# Altium integrated library TI Amplifiers and Linear Special Function Amplifier.IntLib: 708 symbols (part 5 of 47)
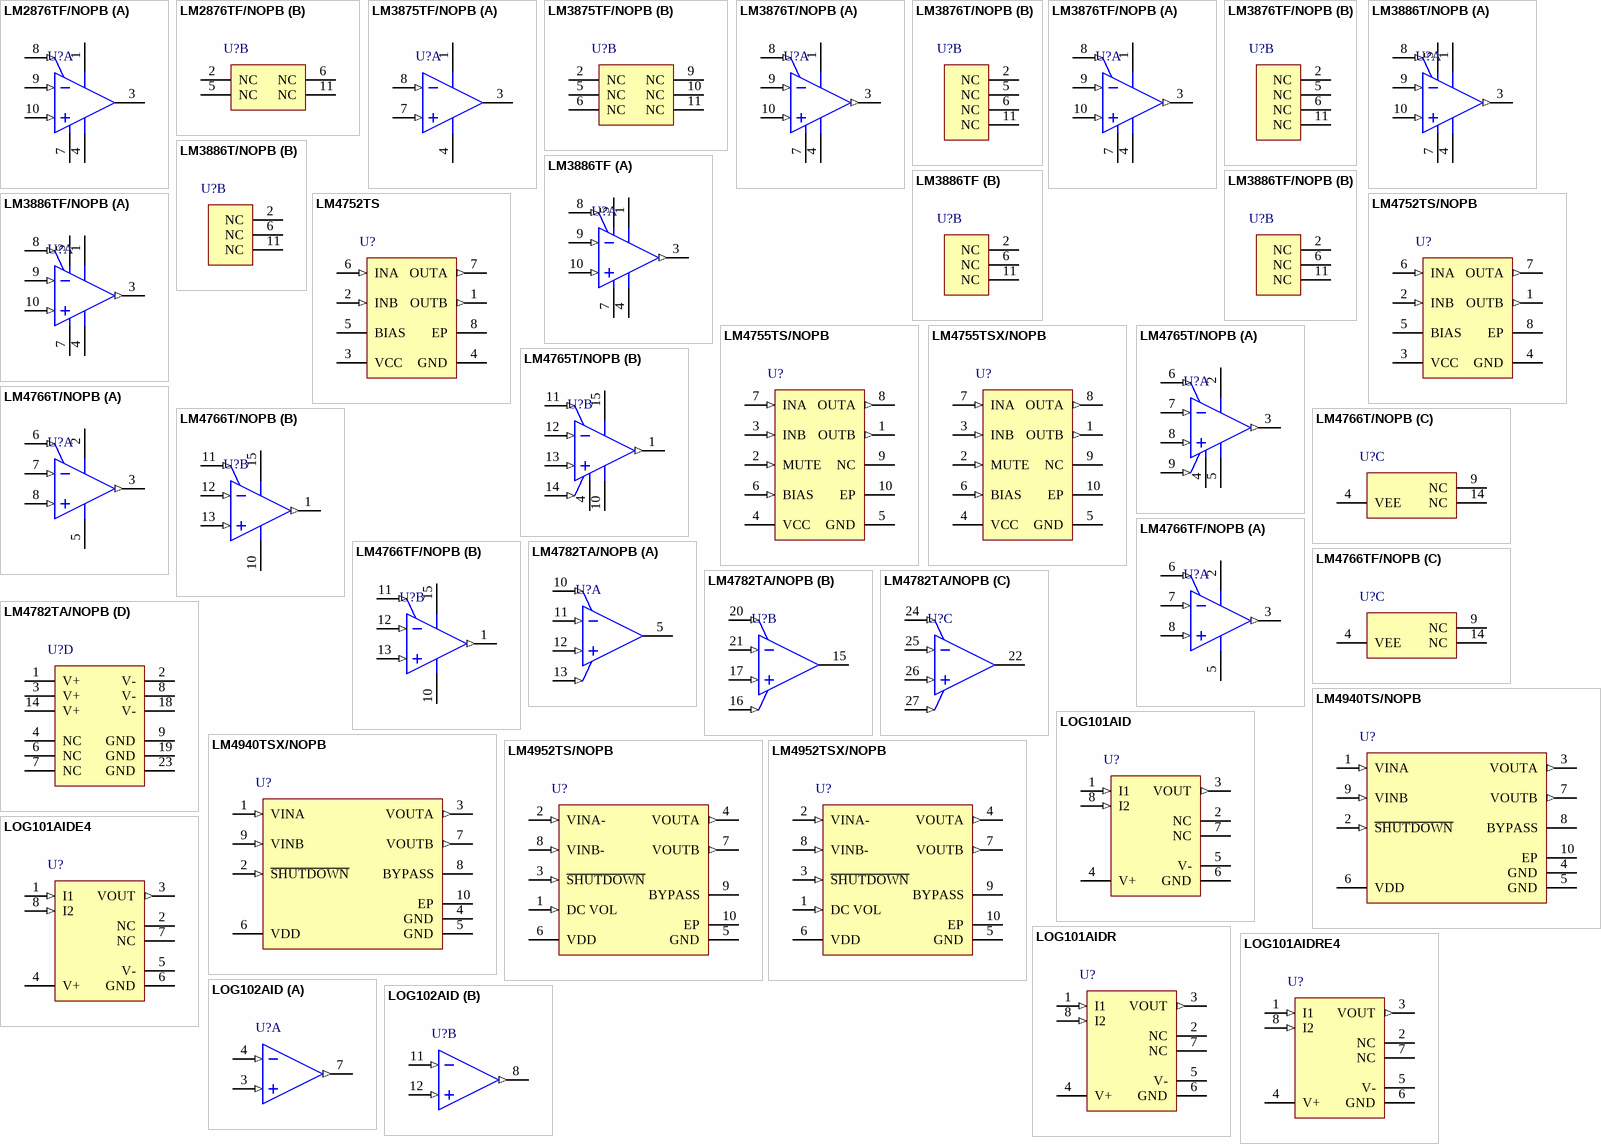
[diagram p43: symbols LM2876TF/NOPB to LOG102AID]

## LM3875TF/NOPB
designator U?
High-Performance 56 W Audio Power Amplifier, -20 to 85 degC, 11-pin FM (NDA11), Pb-Free (RoHS Exempt); Manufacturer: Texas Instruments; PartNumber: LM3875TF/NOPB; Analog Supply Max [V]: 20; Analog Supply Min [V]: 84; Input Type: Analog; SubFamily: Mid/High-Power Amplifier; DatasheetVersion: SNAS083D; PackageVersion: Rev. D, 02/2013; PackageReference: NDA11; PackageDescription: 11-Pin Metal Flange Mount, Body 20.02 x 4.5 mm, Pitch 1.7 mm; Supplier 1: Digi-Key; Supplier Part Number 1: LM3875TF/NOPB-ND; Supplier 2: Farnell; Supplier Part Number 2: 1468867; Supplier 3: Newark; Supplier Part Number 3: 41K5106; Supplier 4: Mouser; Supplier Part Number 4: 926-LM3875TF/NOPB; Eco-Plan: Pb-Free (RoHS Exempt); Mounting Technology: Through Hole; ComponentLink1Description: Manufacturer URL; ComponentLink1URL: http://www.ti.com/; ComponentLink2Description: Datasheet; ComponentLink2URL: http://www.ti.com/general/docs/lit/getliterature.tsp?genericPartNumber=LM3875&fileType=pdf; ComponentLink3Description: Package Specification; ComponentLink3URL: http://www.ti.com/lit/ml/mmsf015/mmsf015.pdf
footprint TI-NDA11 (FM, 11-Leads, Body 20.02x4.5mm, Pitch 1.7mm)
part A pins: 1 V+ (power), 3 OUT (hiz), 4 V- (power), 7 VIN+ (in), 8 VIN- (in)
part B pins: 2 NC, 5 NC, 6 NC, 9 NC, 10 NC, 11 NC

## LM3876T/NOPB
designator U?
High-Performance 56 W Audio Power Amplifier with Mute, -20 to 85 degC, 11-pin FM (NDJ11), Green (RoHS & no Sb/Br); Manufacturer: Texas Instruments; PartNumber: LM3876T/NOPB; Analog Supply Max [V]: 24; Analog Supply Min [V]: 84; Input Type: Analog; SubFamily: Mid/High-Power Amplifier; DatasheetVersion: SNAS090D; PackageVersion: Rev. B, 05/2013; PackageReference: NDJ11; PackageDescription: 11-Pin Metal Flange Mount, Body 20.02 x 4.5, Pitch 1.7 mm; Supplier 1: Digi-Key; Supplier Part Number 1: LM3876T/NOPB-ND; Supplier 2: Farnell; Supplier Part Number 2: 1184989; Supplier 3: Newark; Supplier Part Number 3: 41K5107; Supplier 4: Mouser; Supplier Part Number 4: 926-LM3876T/NOPB; Eco-Plan: Green (RoHS & no Sb/Br); Mounting Technology: Through Hole; ComponentLink1Description: Manufacturer URL; ComponentLink1URL: http://www.ti.com/; ComponentLink2Description: Datasheet; ComponentLink2URL: http://www.ti.com/general/docs/lit/getliterature.tsp?genericPartNumber=LM3876&fileType=pdf; ComponentLink3Description: Package Specification; ComponentLink3URL: http://www.ti.com/lit/ds/symlink/lm3886.pdf
footprint TI-NDJ11 (FM, 11-Leads, Body 20.02x4.5mm, Pitch 1.7mm)
part A pins: 1 V+ (power), 3 OUTPUT (out), 4 V- (power), 7 GND (power), 8 MUTE (in), 9 VIN- (in), 10 VIN+ (in)
part B pins: 2 NC, 5 NC, 6 NC, 11 NC

## LM3876TF/NOPB
designator U?
High-Performance 56 W Audio Power Amplifier with Mute, -20 to 85 degC, 11-pin FM (NDA11), Pb-Free (RoHS Exempt); Manufacturer: Texas Instruments; PartNumber: LM3876TF/NOPB; Analog Supply Max [V]: 24; Analog Supply Min [V]: 84; Input Type: Analog; SubFamily: Mid/High-Power Amplifier; DatasheetVersion: SNAS090D; PackageVersion: Rev. D, 02/2013; PackageReference: NDA11; PackageDescription: 11-Pin Metal Flange Mount, Body 20.02 x 4.5 mm, Pitch 1.7 mm; Supplier 1: Digi-Key; Supplier Part Number 1: LM3876TF/NOPB-ND; Supplier 2: Newark; Supplier Part Number 2: 41K5108; Supplier 3: Mouser; Supplier Part Number 3: 926-LM3876TF/NOPB; Eco-Plan: Pb-Free (RoHS Exempt); Mounting Technology: Through Hole; ComponentLink1Description: Manufacturer URL; ComponentLink1URL: http://www.ti.com/; ComponentLink2Description: Datasheet; ComponentLink2URL: http://www.ti.com/general/docs/lit/getliterature.tsp?genericPartNumber=LM3876&fileType=pdf; ComponentLink3Description: Package Specification; ComponentLink3URL: http://www.ti.com/lit/ml/mmsf015/mmsf015.pdf
footprint TI-NDA11 (FM, 11-Leads, Body 20.02x4.5mm, Pitch 1.7mm)
part A pins: 1 V+ (power), 3 OUTPUT (out), 4 V- (power), 7 GND (power), 8 MUTE (in), 9 VIN- (in), 10 VIN+ (in)
part B pins: 2 NC, 5 NC, 6 NC, 11 NC

## LM3886T/NOPB
designator U?
High-Performance 68 W Audio Power Amplifier with Mute, 0 to 70 degC, 11-pin FM (NDJ11), Green (RoHS & no Sb/Br); Manufacturer: Texas Instruments; PartNumber: LM3886T/NOPB; Input Type: Analog; SubFamily: Mid/High-Power Amplifier; DatasheetVersion: SNAS091C; PackageVersion: Rev. B, 05/2013; PackageReference: NDJ11; PackageDescription: 11-Pin Metal Flange Mount, Body 20.02 x 4.5, Pitch 1.7 mm; Supplier 1: Digi-Key; Supplier Part Number 1: LM3886T/NOPB-ND; Supplier 2: Farnell; Supplier Part Number 2: 1468869; Supplier 3: Newark; Supplier Part Number 3: 41K5109; Supplier 4: Mouser; Supplier Part Number 4: 926-LM3886T/NOPB; Eco-Plan: Green (RoHS & no Sb/Br); Mounting Technology: Through Hole; ComponentLink1Description: Manufacturer URL; ComponentLink1URL: http://www.ti.com/; ComponentLink2Description: Datasheet; ComponentLink2URL: http://www.ti.com/general/docs/lit/getliterature.tsp?genericPartNumber=LM3886&fileType=pdf; ComponentLink3Description: Package Specification; ComponentLink3URL: http://www.ti.com/lit/ds/symlink/lm3886.pdf
footprint TI-NDJ11 (FM, 11-Leads, Body 20.02x4.5mm, Pitch 1.7mm)
part A pins: 1 V+ (power), 3 OUTPUT (out), 4 V- (power), 5 V+ (power), 7 GND (power), 8 MUTE (in), 9 VIN- (in), 10 VIN+ (in)
part B pins: 2 NC, 6 NC, 11 NC

## LM3886TF
designator U?
High-Performance 68 W Audio Power Amplifier with Mute, 0 to 70 degC, 11-pin FM (NDA11); Manufacturer: Texas Instruments; PartNumber: LM3886TF; Input Type: Analog; SubFamily: Mid/High-Power Amplifier; DatasheetVersion: SNAS091C; PackageVersion: Rev. D, 02/2013; PackageReference: NDA11; PackageDescription: 11-Pin Metal Flange Mount, Body 20.02 x 4.5 mm, Pitch 1.7 mm; Supplier 1: Digi-Key; Supplier Part Number 1: LM3886TF-ND; Supplier 2: Farnell; Supplier Part Number 2: 9489681; Supplier 3: Farnell; Supplier Part Number 3: 1523846; Supplier 4: Newark; Supplier Part Number 4: 92F299; Supplier 5: Mouser; Supplier Part Number 5: 926-LM3886TF; Mounting Technology: Through Hole; ComponentLink1Description: Manufacturer URL; ComponentLink1URL: http://www.ti.com/; ComponentLink2Description: Datasheet; ComponentLink2URL: http://www.ti.com/general/docs/lit/getliterature.tsp?genericPartNumber=LM3886&fileType=pdf; ComponentLink3Description: Package Specification; ComponentLink3URL: http://www.ti.com/lit/ml/mmsf015/mmsf015.pdf
footprint TI-NDA11 (FM, 11-Leads, Body 20.02x4.5mm, Pitch 1.7mm)
part A pins: 1 V+ (power), 3 OUTPUT (out), 4 V- (power), 5 V+ (power), 7 GND (power), 8 MUTE (in), 9 VIN- (in), 10 VIN+ (in)
part B pins: 2 NC, 6 NC, 11 NC

## LM3886TF/NOPB
designator U?
High-Performance 68 W Audio Power Amplifier with Mute, 0 to 70 degC, 11-pin FM (NDA11), Pb-Free (RoHS Exempt); Manufacturer: Texas Instruments; PartNumber: LM3886TF/NOPB; Input Type: Analog; SubFamily: Mid/High-Power Amplifier; DatasheetVersion: SNAS091C; PackageVersion: Rev. D, 02/2013; PackageReference: NDA11; PackageDescription: 11-Pin Metal Flange Mount, Body 20.02 x 4.5 mm, Pitch 1.7 mm; Supplier 1: Digi-Key; Supplier Part Number 1: LM3886TF/NOPB-ND; Supplier 2: Farnell; Supplier Part Number 2: 1179742; Supplier 3: Newark; Supplier Part Number 3: 41K5110; Supplier 4: Mouser; Supplier Part Number 4: 926-LM3886TF/NOPB; Eco-Plan: Pb-Free (RoHS Exempt); Mounting Technology: Through Hole; ComponentLink1Description: Manufacturer URL; ComponentLink1URL: http://www.ti.com/; ComponentLink2Description: Datasheet; ComponentLink2URL: http://www.ti.com/general/docs/lit/getliterature.tsp?genericPartNumber=LM3886&fileType=pdf; ComponentLink3Description: Package Specification; ComponentLink3URL: http://www.ti.com/lit/ml/mmsf015/mmsf015.pdf
footprint TI-NDA11 (FM, 11-Leads, Body 20.02x4.5mm, Pitch 1.7mm)
part A pins: 1 V+ (power), 3 OUTPUT (out), 4 V- (power), 5 V+ (power), 7 GND (power), 8 MUTE (in), 9 VIN- (in), 10 VIN+ (in)
part B pins: 2 NC, 6 NC, 11 NC

## LM4752TS
designator U?
Stereo 11 W Audio Power Amplifier, 0 to 70 degC, 7-pin DPAK (KTW7); Manufacturer: Texas Instruments; PartNumber: LM4752TS; Input Type: Analog; Max. Number of Speaker Outputs: 2; SubFamily: Mid/High-Power Amplifier; DatasheetVersion: SNAS006E; PackageVersion: 4201284/A, 08/2001; PackageReference: KTW7; PackageDescription: 7-Pin Plastic Flange Mount, Body 8.89 x 10.1 mm, Pitch 1.27 mm; Supplier 1: Digi-Key; Supplier Part Number 1: LM4752TS-ND; Supplier 2: Farnell; Supplier Part Number 2: 1798325; Supplier 3: Newark; Supplier Part Number 3: 73R9744; Supplier 4: Newark; Supplier Part Number 4: 48F7272; Supplier 5: Mouser; Supplier Part Number 5: 926-LM4752TS; Mounting Technology: Surface Mount; Code_JEDEC: MO-169; ComponentLink1Description: Manufacturer URL; ComponentLink1URL: http://www.ti.com/; ComponentLink2Description: Datasheet; ComponentLink2URL: http://www.ti.com/general/docs/lit/getliterature.tsp?genericPartNumber=LM4752&fileType=pdf; ComponentLink3Description: Package Specification; ComponentLink3URL: http://www.ti.com/litv/pdf/mpsf015
footprint TI-KTW7_N (DPAK, 7-Leads, Body 9.4x10.4mm, Pitch 1.27mm, IPC Medium Density)
footprint TI-KTW7_L (DPAK, 7-Leads, Body 9.4x10.4mm, Pitch 1.27mm, IPC High Density)
footprint TI-KTW7_M (DPAK, 7-Leads, Body 9.4x10.4mm, Pitch 1.27mm, IPC Low Density)
pins: 1 OUTB (out), 2 INB (in), 3 VCC (power), 4 GND (power), 5 BIAS, 6 INA (in), 7 OUTA (out), 8 EP

## LM4752TS/NOPB
designator U?
Stereo 11 W Audio Power Amplifier, 0 to 70 degC, 7-pin DPAK (KTW7), Pb-Free (RoHS Exempt); Manufacturer: Texas Instruments; PartNumber: LM4752TS/NOPB; Input Type: Analog; Max. Number of Speaker Outputs: 2; SubFamily: Mid/High-Power Amplifier; DatasheetVersion: SNAS006E; PackageVersion: 4201284/A, 08/2001; PackageReference: KTW7; PackageDescription: 7-Pin Plastic Flange Mount, Body 8.89 x 10.1 mm, Pitch 1.27 mm; Supplier 1: Digi-Key; Supplier Part Number 1: LM4752TS/NOPB-ND; Supplier 2: Farnell; Supplier Part Number 2: 1853252; Supplier 3: Newark; Supplier Part Number 3: 41K5583; Supplier 4: Mouser; Supplier Part Number 4: 926-LM4752TS/NOPB; Eco-Plan: Pb-Free (RoHS Exempt); Mounting Technology: Surface Mount; Code_JEDEC: MO-169; ComponentLink1Description: Manufacturer URL; ComponentLink1URL: http://www.ti.com/; ComponentLink2Description: Datasheet; ComponentLink2URL: http://www.ti.com/general/docs/lit/getliterature.tsp?genericPartNumber=LM4752&fileType=pdf; ComponentLink3Description: Package Specification; ComponentLink3URL: http://www.ti.com/litv/pdf/mpsf015
footprint TI-KTW7_N (DPAK, 7-Leads, Body 9.4x10.4mm, Pitch 1.27mm, IPC Medium Density)
footprint TI-KTW7_L (DPAK, 7-Leads, Body 9.4x10.4mm, Pitch 1.27mm, IPC High Density)
footprint TI-KTW7_M (DPAK, 7-Leads, Body 9.4x10.4mm, Pitch 1.27mm, IPC Low Density)
pins: 1 OUTB (out), 2 INB (in), 3 VCC (power), 4 GND (power), 5 BIAS, 6 INA (in), 7 OUTA (out), 8 EP

## LM4755TS/NOPB
designator U?
Stereo 11 W Audio Power Amplifier with Mute, -40 to 85 degC, 9-pin DPAK (KTW9), Pb-Free (RoHS Exempt); Manufacturer: Texas Instruments; PartNumber: LM4755TS/NOPB; Input Type: Analog; Max. Number of Speaker Outputs: 2; SubFamily: Mid/High-Power Amplifier; DatasheetVersion: SNAS010E; PackageVersion: Rev. B, 04/2013; PackageReference: TI-KTW9; PackageDescription: 9-Pin Plastic Flange Mount, Bdoy 10.16 x 4.57 mm, Pitch 0.97 mm; Supplier 1: Digi-Key; Supplier Part Number 1: LM4755TS/NOPB-ND; Supplier 2: Farnell; Supplier Part Number 2: 1685378; Supplier 3: Newark; Supplier Part Number 3: 41K5585; Supplier 4: Mouser; Supplier Part Number 4: 926-LM4755TS/NOPB; Eco-Plan: Pb-Free (RoHS Exempt); Mounting Technology: Through Hole; ComponentLink1Description: Manufacturer URL; ComponentLink1URL: http://www.ti.com/; ComponentLink2Description: Datasheet; ComponentLink2URL: http://www.ti.com/general/docs/lit/getliterature.tsp?genericPartNumber=LM4755&fileType=pdf; ComponentLink3Description: Package Specification; ComponentLink3URL: http://www.ti.com/lit/ml/mpsf047/mpsf047.pdf
footprint TI-KTW9_N (DPAK, 9-Leads, Body 10.16x8.69mm, Pitch 0.97mm, IPC Medium Density)
footprint TI-KTW9_L (DPAK, 9-Leads, Body 10.16x8.69mm, Pitch 0.97mm, IPC High Density)
footprint TI-KTW9_M (DPAK, 9-Leads, Body 10.16x8.69mm, Pitch 0.97mm, IPC Low Density)
pins: 1 OUTB (out), 2 MUTE (in), 3 INB (in), 4 VCC (power), 5 GND (power), 6 BIAS (in), 7 INA (in), 8 OUTA (out), 9 NC, 10 EP

## LM4755TSX/NOPB
designator U?
Stereo 11 W Audio Power Amplifier with Mute, -40 to 85 degC, 9-pin DPAK (KTW9), Pb-Free (RoHS Exempt); Manufacturer: Texas Instruments; PartNumber: LM4755TSX/NOPB; Input Type: Analog; Max. Number of Speaker Outputs: 2; SubFamily: Mid/High-Power Amplifier; DatasheetVersion: SNAS010E; PackageVersion: Rev. B, 04/2013; PackageReference: TI-KTW9; PackageDescription: 9-Pin Plastic Flange Mount, Bdoy 10.16 x 4.57 mm, Pitch 0.97 mm; Supplier 1: Digi-Key; Supplier Part Number 1: LM4755TSX/NOPBTR-ND; Supplier 2: Digi-Key; Supplier Part Number 2: LM4755TSX/NOPBCT-ND; Supplier 3: Digi-Key; Supplier Part Number 3: LM4755TSX/NOPBDKR-ND; Supplier 4: Newark; Supplier Part Number 4: 41K5586; Supplier 5: Mouser; Supplier Part Number 5: 926-LM4755TSX/NOPB; Eco-Plan: Pb-Free (RoHS Exempt); Mounting Technology: Through Hole; ComponentLink1Description: Manufacturer URL; ComponentLink1URL: http://www.ti.com/; ComponentLink2Description: Datasheet; ComponentLink2URL: http://www.ti.com/general/docs/lit/getliterature.tsp?genericPartNumber=LM4755&fileType=pdf; ComponentLink3Description: Package Specification; ComponentLink3URL: http://www.ti.com/lit/ml/mpsf047/mpsf047.pdf
footprint TI-KTW9_N (DPAK, 9-Leads, Body 10.16x8.69mm, Pitch 0.97mm, IPC Medium Density)
footprint TI-KTW9_L (DPAK, 9-Leads, Body 10.16x8.69mm, Pitch 0.97mm, IPC High Density)
footprint TI-KTW9_M (DPAK, 9-Leads, Body 10.16x8.69mm, Pitch 0.97mm, IPC Low Density)
pins: 1 OUTB (out), 2 MUTE (in), 3 INB (in), 4 VCC (power), 5 GND (power), 6 BIAS (in), 7 INA (in), 8 OUTA (out), 9 NC, 10 EP

## LM4765T/NOPB
designator U?
Overture Audio Power Amplifier Series Dual 30 Watt Audio Power Amplifier with Mute & Standby Mode, -20 to 85 degC, 15-pin FM (NDL15), Green (RoHS & no Sb/Br); Manufacturer: Texas Instruments; PartNumber: LM4765T/NOPB; Input Type: Analog; Max. Number of Speaker Outputs: 2; SubFamily: Mid/High-Power Amplifier; DatasheetVersion: SNAS030C; PackageVersion: Rev. B, 04/2013; PackageReference: NDL15; PackageDescription: 15-Pin Metal Flange Mount, Body 20.02 x 4.5 mm, Pitch 1.27 mm; Supplier 1: Digi-Key; Supplier Part Number 1: LM4765T/NOPB-ND; Supplier 2: Farnell; Supplier Part Number 2: 1685341; Supplier 3: Newark; Supplier Part Number 3: 41K5588; Supplier 4: Mouser; Supplier Part Number 4: 926-LM4765T/NOPB; Eco-Plan: Green (RoHS & no Sb/Br); Mounting Technology: Through Hole; ComponentLink1Description: Manufacturer URL; ComponentLink1URL: http://www.ti.com/; ComponentLink2Description: Datasheet; ComponentLink2URL: http://www.ti.com/general/docs/lit/getliterature.tsp?genericPartNumber=LM4765&fileType=pdf; ComponentLink3Description: Package Specification; ComponentLink3URL: http://www.ti.com/lit/ds/symlink/lm1876.pdf
footprint TI-NDL15 (FM, 15-Leads, Body 20.02x4.5mm, Pitch 1.27mm)
pins on every part: 4 VEE (power)
part A pins: 2 VCC A (power), 3 OUT A (out), 5 GND A (power), 6 MUTE A (in), 7 IN A- (in), 8 IN A+ (in), 9 STANDBY A (in)
part B pins: 1 OUT B (out), 10 GND B (power), 11 MUTE B (in), 12 IN B- (in), 13 IN B+ (in), 14 STANDBY B (in), 15 VCC B (power)

## LM4766T/NOPB
designator U?
Overture Audio Power Amplifier Series Dual 40 Watt Audio Power Amplifier with Mute, -20 to 85 degC, 15-pin FM (NDL15), Green (RoHS & no Sb/Br); Manufacturer: Texas Instruments; PartNumber: LM4766T/NOPB; Input Type: Analog; Max. Number of Speaker Outputs: 2; SubFamily: Mid/High-Power Amplifier; DatasheetVersion: SNAS031F; PackageVersion: Rev. B, 04/2013; PackageReference: NDL15; PackageDescription: 15-Pin Metal Flange Mount, Body 20.02 x 4.5 mm, Pitch 1.27 mm; Supplier 1: Digi-Key; Supplier Part Number 1: LM4766T/NOPB-ND; Supplier 2: Newark; Supplier Part Number 2: 41K5589; Supplier 3: Mouser; Supplier Part Number 3: 926-LM4766T/NOPB; Eco-Plan: Green (RoHS & no Sb/Br); Mounting Technology: Through Hole; ComponentLink1Description: Manufacturer URL; ComponentLink1URL: http://www.ti.com/; ComponentLink2Description: Datasheet; ComponentLink2URL: http://www.ti.com/general/docs/lit/getliterature.tsp?genericPartNumber=LM4766&fileType=pdf; ComponentLink3Description: Package Specification; ComponentLink3URL: http://www.ti.com/lit/ds/symlink/lm1876.pdf
footprint TI-NDL15 (FM, 15-Leads, Body 20.02x4.5mm, Pitch 1.27mm)
part A pins: 2 VCC A (power), 3 OUT A (out), 5 GND A (power), 6 MUTE A (in), 7 IN A- (in), 8 IN A+ (in)
part B pins: 1 OUT B (out), 10 GND B (power), 11 MUTE B (in), 12 IN B- (in), 13 IN B+ (in), 15 VCC B (power)
part C pins: 4 VEE (power), 9 NC, 14 NC

## LM4766TF/NOPB
designator U?
Overture Audio Power Amplifier Series Dual 40 Watt Audio Power Amplifier with Mute, -20 to 85 degC, 15-pin FM (NDB15), Pb-Free (RoHS Exempt); Manufacturer: Texas Instruments; PartNumber: LM4766TF/NOPB; Input Type: Analog; Max. Number of Speaker Outputs: 2; SubFamily: Mid/High-Power Amplifier; DatasheetVersion: SNAS031F; PackageVersion: Rev. B, 02/2013; PackageReference: NDB15; PackageDescription: 15-Pin Metal Flange Mount, Body 20.02 x 4.5 mm, Pitch 1.27 mm; Supplier 1: Digi-Key; Supplier Part Number 1: LM4766TF/NOPB-ND; Supplier 2: Farnell; Supplier Part Number 2: 1685379; Supplier 3: Newark; Supplier Part Number 3: 41K5590; Supplier 4: Mouser; Supplier Part Number 4: 926-LM4766TF/NOPB; Eco-Plan: Pb-Free (RoHS Exempt); Mounting Technology: Through Hole; ComponentLink1Description: Manufacturer URL; ComponentLink1URL: http://www.ti.com/; ComponentLink2Description: Datasheet; ComponentLink2URL: http://www.ti.com/general/docs/lit/getliterature.tsp?genericPartNumber=LM4766&fileType=pdf; ComponentLink3Description: Package Specification; ComponentLink3URL: http://www.ti.com/lit/ml/mmsf016/mmsf016.pdf
footprint TI-NDB15 (FM, 15-Leads, Body 20.02x4.5mm, Pitch 1.27mm)
part A pins: 2 VCC A (power), 3 OUT A (out), 5 GND A (power), 6 MUTE A (in), 7 IN A- (in), 8 IN A+ (in)
part B pins: 1 OUT B (out), 10 GND B (power), 11 MUTE B (in), 12 IN B- (in), 13 IN B+ (in), 15 VCC B (power)
part C pins: 4 VEE (power), 9 NC, 14 NC

## LM4782TA/NOPB
designator U?
3 Channel 25 W Audio Power Amplifier with Mute and Standby, -20 to 85 degC, 27-pin TO-220 (NDM27), Green (RoHS & no Sb/Br); Manufacturer: Texas Instruments; PartNumber: LM4782TA/NOPB; Input Type: Analog; Max. Number of Speaker Outputs: 3; SubFamily: Mid/High-Power Amplifier; DatasheetVersion: SNAS231B; PackageVersion: Rev. B, 08/2012; PackageReference: NDM27; PackageDescription: 27-Pin Metal Flange Mount, Body 29.21 x 4.496 mm, Pitch 1 mm; Supplier 1: Digi-Key; Supplier Part Number 1: LM4782TA/NOPB-ND; Supplier 2: Mouser; Supplier Part Number 2: 926-LM4782TA/NOPB; Eco-Plan: Green (RoHS & no Sb/Br); Mounting Technology: Through Hole; ComponentLink1Description: Manufacturer URL; ComponentLink1URL: http://www.ti.com/; ComponentLink2Description: Datasheet; ComponentLink2URL: http://www.ti.com/general/docs/lit/getliterature.tsp?genericPartNumber=LM4782&fileType=pdf; ComponentLink3Description: Package Specification; ComponentLink3URL: http://www.ti.com/lit/ml/mmsf018/mmsf018.pdf
footprint TI-NDM27_V (NDM, 27-Leads, Body 29.21x4.496mm, Pitch 1mm)
part A pins: 5 OUT 1 (hiz), 10 MUTE 1 (in), 11 IN 1- (in), 12 IN 1+ (in), 13 STBY 1 (in)
part B pins: 15 OUT 2 (hiz), 16 STBY 2 (in), 17 IN 2+ (in), 20 MUTE 2 (in), 21 IN 2- (in)
part C pins: 22 OUT 3 (hiz), 24 MUTE 3 (in), 25 IN 3- (in), 26 IN 3+ (in), 27 STBY 3 (in)
part D pins: 1 V+ (power), 2 V- (power), 3 V+ (power), 4 NC, 6 NC, 7 NC, 8 V- (power), 9 GND (power), 14 V+ (power), 18 V- (power), 19 GND (power), 23 GND (power)

## LM4940TS/NOPB
designator U?
6 W Stereo Audio Power Amplifier, -40 to 85 degC, 9-pin DPAK (KTW9), Pb-Free (RoHS Exempt); Manufacturer: Texas Instruments; PartNumber: LM4940TS/NOPB; Input Type: Analog; Max. Number of Speaker Outputs: 2; SubFamily: Mid/High-Power Amplifier; DatasheetVersion: SNAS219C; PackageVersion: Rev. B, 04/2013; PackageReference: TI-KTW9; PackageDescription: 9-Pin Plastic Flange Mount, Bdoy 10.16 x 4.57 mm, Pitch 0.97 mm; Supplier 1: Digi-Key; Supplier Part Number 1: LM4940TS/NOPB-ND; Supplier 2: Mouser; Supplier Part Number 2: 926-LM4940TS/NOPB; Eco-Plan: Pb-Free (RoHS Exempt); Mounting Technology: Through Hole; ComponentLink1Description: Manufacturer URL; ComponentLink1URL: http://www.ti.com/; ComponentLink2Description: Datasheet; ComponentLink2URL: http://www.ti.com/general/docs/lit/getliterature.tsp?genericPartNumber=LM4940&fileType=pdf; ComponentLink3Description: Package Specification; ComponentLink3URL: http://www.ti.com/lit/ml/mpsf047/mpsf047.pdf
footprint TI-KTW9_N (DPAK, 9-Leads, Body 10.16x8.69mm, Pitch 0.97mm, IPC Medium Density)
footprint TI-KTW9_L (DPAK, 9-Leads, Body 10.16x8.69mm, Pitch 0.97mm, IPC High Density)
footprint TI-KTW9_M (DPAK, 9-Leads, Body 10.16x8.69mm, Pitch 0.97mm, IPC Low Density)
pins: 1 VINA (in), 2 ~{SHUTDOWN} (in), 3 VOUTA (out), 4 GND (power), 5 GND (power), 6 VDD (power), 7 VOUTB (out), 8 BYPASS, 9 VINB (in), 10 EP

## LM4940TSX/NOPB
designator U?
6 W Stereo Audio Power Amplifier, -40 to 85 degC, 9-pin DPAK (KTW9), Pb-Free (RoHS Exempt); Manufacturer: Texas Instruments; PartNumber: LM4940TSX/NOPB; Input Type: Analog; Max. Number of Speaker Outputs: 2; SubFamily: Mid/High-Power Amplifier; DatasheetVersion: SNAS219C; PackageVersion: Rev. B, 04/2013; PackageReference: TI-KTW9; PackageDescription: 9-Pin Plastic Flange Mount, Bdoy 10.16 x 4.57 mm, Pitch 0.97 mm; Supplier 1: Digi-Key; Supplier Part Number 1: LM4940TSX/NOPBTR-ND; Supplier 2: Digi-Key; Supplier Part Number 2: LM4940TSX/NOPBCT-ND; Supplier 3: Digi-Key; Supplier Part Number 3: LM4940TSX/NOPBDKR-ND; Supplier 4: Mouser; Supplier Part Number 4: 926-LM4940TSX/NOPB; Eco-Plan: Pb-Free (RoHS Exempt); Mounting Technology: Through Hole; ComponentLink1Description: Manufacturer URL; ComponentLink1URL: http://www.ti.com/; ComponentLink2Description: Datasheet; ComponentLink2URL: http://www.ti.com/general/docs/lit/getliterature.tsp?genericPartNumber=LM4940&fileType=pdf; ComponentLink3Description: Package Specification; ComponentLink3URL: http://www.ti.com/lit/ml/mpsf047/mpsf047.pdf
footprint TI-KTW9_N (DPAK, 9-Leads, Body 10.16x8.69mm, Pitch 0.97mm, IPC Medium Density)
footprint TI-KTW9_L (DPAK, 9-Leads, Body 10.16x8.69mm, Pitch 0.97mm, IPC High Density)
footprint TI-KTW9_M (DPAK, 9-Leads, Body 10.16x8.69mm, Pitch 0.97mm, IPC Low Density)
pins: 1 VINA (in), 2 ~{SHUTDOWN} (in), 3 VOUTA (out), 4 GND (power), 5 GND (power), 6 VDD (power), 7 VOUTB (out), 8 BYPASS, 9 VINB (in), 10 EP

## LM4952TS/NOPB
designator U?
3.1 W Stereo-SE Audio Power Amplifier with DC Volume Control, -40 to 85 degC, 9-pin DPAK (KTW9), Pb-Free (RoHS Exempt); Manufacturer: Texas Instruments; PartNumber: LM4952TS/NOPB; Input Type: Analog; Max. Number of Speaker Outputs: 2; SubFamily: Mid/High-Power Amplifier; DatasheetVersion: SNAS230A; PackageVersion: Rev. B, 04/2013; PackageReference: TI-KTW9; PackageDescription: 9-Pin Plastic Flange Mount, Bdoy 10.16 x 4.57 mm, Pitch 0.97 mm; Supplier 1: Digi-Key; Supplier Part Number 1: LM4952TS/NOPB-ND; Supplier 2: Newark; Supplier Part Number 2: 41K5994; Supplier 3: Mouser; Supplier Part Number 3: 926-LM4952TS/NOPB; Eco-Plan: Pb-Free (RoHS Exempt); Mounting Technology: Through Hole; ComponentLink1Description: Manufacturer URL; ComponentLink1URL: http://www.ti.com/; ComponentLink2Description: Datasheet; ComponentLink2URL: http://www.ti.com/general/docs/lit/getliterature.tsp?genericPartNumber=LM4952&fileType=pdf; ComponentLink3Description: Package Specification; ComponentLink3URL: http://www.ti.com/lit/ml/mpsf047/mpsf047.pdf
footprint TI-KTW9_N (DPAK, 9-Leads, Body 10.16x8.69mm, Pitch 0.97mm, IPC Medium Density)
footprint TI-KTW9_L (DPAK, 9-Leads, Body 10.16x8.69mm, Pitch 0.97mm, IPC High Density)
footprint TI-KTW9_M (DPAK, 9-Leads, Body 10.16x8.69mm, Pitch 0.97mm, IPC Low Density)
pins: 1 DC VOL (in), 2 VINA- (in), 3 ~{SHUTDOWN} (in), 4 VOUTA (out), 5 GND (power), 6 VDD (power), 7 VOUTB (out), 8 VINB- (in), 9 BYPASS, 10 EP

## LM4952TSX/NOPB
designator U?
3.1 W Stereo-SE Audio Power Amplifier with DC Volume Control, -40 to 85 degC, 9-pin DPAK (KTW9), Pb-Free (RoHS Exempt); Manufacturer: Texas Instruments; PartNumber: LM4952TSX/NOPB; Input Type: Analog; Max. Number of Speaker Outputs: 2; SubFamily: Mid/High-Power Amplifier; DatasheetVersion: SNAS230A; PackageVersion: Rev. B, 04/2013; PackageReference: TI-KTW9; PackageDescription: 9-Pin Plastic Flange Mount, Bdoy 10.16 x 4.57 mm, Pitch 0.97 mm; Supplier 1: Digi-Key; Supplier Part Number 1: LM4952TSX/NOPB-ND; Supplier 2: Mouser; Supplier Part Number 2: 926-LM4952TSX/NOPB; Eco-Plan: Pb-Free (RoHS Exempt); Mounting Technology: Through Hole; ComponentLink1Description: Manufacturer URL; ComponentLink1URL: http://www.ti.com/; ComponentLink2Description: Datasheet; ComponentLink2URL: http://www.ti.com/general/docs/lit/getliterature.tsp?genericPartNumber=LM4952&fileType=pdf; ComponentLink3Description: Package Specification; ComponentLink3URL: http://www.ti.com/lit/ml/mpsf047/mpsf047.pdf
footprint TI-KTW9_N (DPAK, 9-Leads, Body 10.16x8.69mm, Pitch 0.97mm, IPC Medium Density)
footprint TI-KTW9_L (DPAK, 9-Leads, Body 10.16x8.69mm, Pitch 0.97mm, IPC High Density)
footprint TI-KTW9_M (DPAK, 9-Leads, Body 10.16x8.69mm, Pitch 0.97mm, IPC Low Density)
pins: 1 DC VOL (in), 2 VINA- (in), 3 ~{SHUTDOWN} (in), 4 VOUTA (out), 5 GND (power), 6 VDD (power), 7 VOUTB (out), 8 VINB- (in), 9 BYPASS, 10 EP

## LOG101AID
designator U?
Logarithmic Amplifier, -40 to 85 degC, 8-pin SOIC (D8), Green (RoHS & no Sb/Br); Manufacturer: Texas Instruments; PartNumber: LOG101AID; Conformity Error (initial 5 decades)(Max)(%): 0.2; Full-Scale Output Voltage(Max)(+/- V): 1.5; Full-Scale Output Voltage(Min)(+/- V): 1.2; Input Current Range(Max)(mA): 3.5; Input Current Range(Min)(nA): 0.1; Reference Type: External; Scale Factor(V/decade): 1; Vs (+/-)(Max)(V): 18; Vs (+/-)(Min)(V): 4.5; DatasheetVersion: SBOS242B; PackageVersion: 4040047-3/M, 06/2011; PackageReference: D8; PackageDescription: 8-Pin Plastic Small Outline, Body 4.9 x 3.9 mm, Pitch 1.27 mm; Supplier 1: Digi-Key; Supplier Part Number 1: 296-12850-5-ND; Supplier 2: Newark; Supplier Part Number 2: 75C0874; Supplier 3: Mouser; Supplier Part Number 3: 595-LOG101AID; Eco-Plan: Green (RoHS & no Sb/Br); Iq(Max)(mA): 1.5; Offset Voltage (Input Amplifiers)(Max)(mV): 1.5; SubFamily: Logarithmic Amplifier; Mounting Technology: Surface Mount; Code_JEDEC: MS-012; ComponentLink1Description: Manufacturer URL; ComponentLink1URL: http://www.ti.com/; ComponentLink2Description: Datasheet; ComponentLink2URL: http://www.ti.com/general/docs/lit/getliterature.tsp?genericPartNumber=LOG101&fileType=pdf; ComponentLink3Description: Package Specification; ComponentLink3URL: http://www.ti.com/litv/pdf/msoi002j
footprint TI-D8_N (SOIC, 8-Leads, Body 5x4mm, Pitch 1.27mm, IPC Medium Density)
footprint TI-D8_L (SOIC, 8-Leads, Body 5x4mm, Pitch 1.27mm, IPC High Density)
footprint TI-D8_M (SOIC, 8-Leads, Body 5x4mm, Pitch 1.27mm, IPC Low Density)
pins: 1 I1 (in), 2 NC, 3 VOUT (out), 4 V+ (power), 5 V- (power), 6 GND (power), 7 NC, 8 I2 (in)

## LOG101AIDE4
designator U?
Logarithmic Amplifier, -40 to 85 degC, 8-pin SOIC (D8), Green (RoHS & no Sb/Br); Manufacturer: Texas Instruments; PartNumber: LOG101AIDE4; Conformity Error (initial 5 decades)(Max)(%): 0.2; Full-Scale Output Voltage(Max)(+/- V): 1.5; Full-Scale Output Voltage(Min)(+/- V): 1.2; Input Current Range(Max)(mA): 3.5; Input Current Range(Min)(nA): 0.1; Reference Type: External; Scale Factor(V/decade): 1; Vs (+/-)(Max)(V): 18; Vs (+/-)(Min)(V): 4.5; DatasheetVersion: SBOS242B; PackageVersion: 4040047-3/M, 06/2011; PackageReference: D8; PackageDescription: 8-Pin Plastic Small Outline, Body 4.9 x 3.9 mm, Pitch 1.27 mm; Supplier 1: Digi-Key; Supplier Part Number 1: LOG101AIDE4-ND; Supplier 2: Farnell; Supplier Part Number 2: 1206918; Supplier 3: Newark; Supplier Part Number 3: 97K3622; Supplier 4: Mouser; Supplier Part Number 4: 595-LOG101AIDE4; Eco-Plan: Green (RoHS & no Sb/Br); Iq(Max)(mA): 1.5; Offset Voltage (Input Amplifiers)(Max)(mV): 1.5; SubFamily: Logarithmic Amplifier; Mounting Technology: Surface Mount; Code_JEDEC: MS-012; ComponentLink1Description: Manufacturer URL; ComponentLink1URL: http://www.ti.com/; ComponentLink2Description: Datasheet; ComponentLink2URL: http://www.ti.com/general/docs/lit/getliterature.tsp?genericPartNumber=LOG101&fileType=pdf; ComponentLink3Description: Package Specification; ComponentLink3URL: http://www.ti.com/litv/pdf/msoi002j
footprint TI-D8_N (SOIC, 8-Leads, Body 5x4mm, Pitch 1.27mm, IPC Medium Density)
footprint TI-D8_L (SOIC, 8-Leads, Body 5x4mm, Pitch 1.27mm, IPC High Density)
footprint TI-D8_M (SOIC, 8-Leads, Body 5x4mm, Pitch 1.27mm, IPC Low Density)
pins: 1 I1 (in), 2 NC, 3 VOUT (out), 4 V+ (power), 5 V- (power), 6 GND (power), 7 NC, 8 I2 (in)

## LOG101AIDR
designator U?
Logarithmic Amplifier, -40 to 85 degC, 8-pin SOIC (D8), Green (RoHS & no Sb/Br); Manufacturer: Texas Instruments; PartNumber: LOG101AIDR; Conformity Error (initial 5 decades)(Max)(%): 0.2; Full-Scale Output Voltage(Max)(+/- V): 1.5; Full-Scale Output Voltage(Min)(+/- V): 1.2; Input Current Range(Max)(mA): 3.5; Input Current Range(Min)(nA): 0.1; Reference Type: External; Scale Factor(V/decade): 1; Vs (+/-)(Max)(V): 18; Vs (+/-)(Min)(V): 4.5; DatasheetVersion: SBOS242B; PackageVersion: 4040047-3/M, 06/2011; PackageReference: D8; PackageDescription: 8-Pin Plastic Small Outline, Body 4.9 x 3.9 mm, Pitch 1.27 mm; Supplier 1: Digi-Key; Supplier Part Number 1: LOG101AIDR-ND; Supplier 2: Mouser; Supplier Part Number 2: 595-LOG101AIDR; Eco-Plan: Green (RoHS & no Sb/Br); Iq(Max)(mA): 1.5; Offset Voltage (Input Amplifiers)(Max)(mV): 1.5; SubFamily: Logarithmic Amplifier; Mounting Technology: Surface Mount; Code_JEDEC: MS-012; ComponentLink1Description: Manufacturer URL; ComponentLink1URL: http://www.ti.com/; ComponentLink2Description: Datasheet; ComponentLink2URL: http://www.ti.com/general/docs/lit/getliterature.tsp?genericPartNumber=LOG101&fileType=pdf; ComponentLink3Description: Package Specification; ComponentLink3URL: http://www.ti.com/litv/pdf/msoi002j
footprint TI-D8_N (SOIC, 8-Leads, Body 5x4mm, Pitch 1.27mm, IPC Medium Density)
footprint TI-D8_L (SOIC, 8-Leads, Body 5x4mm, Pitch 1.27mm, IPC High Density)
footprint TI-D8_M (SOIC, 8-Leads, Body 5x4mm, Pitch 1.27mm, IPC Low Density)
pins: 1 I1 (in), 2 NC, 3 VOUT (out), 4 V+ (power), 5 V- (power), 6 GND (power), 7 NC, 8 I2 (in)

## LOG101AIDRE4
designator U?
Logarithmic Amplifier, -40 to 85 degC, 8-pin SOIC (D8), Green (RoHS & no Sb/Br); Manufacturer: Texas Instruments; PartNumber: LOG101AIDRE4; Conformity Error (initial 5 decades)(Max)(%): 0.2; Full-Scale Output Voltage(Max)(+/- V): 1.5; Full-Scale Output Voltage(Min)(+/- V): 1.2; Input Current Range(Max)(mA): 3.5; Input Current Range(Min)(nA): 0.1; Reference Type: External; Scale Factor(V/decade): 1; Vs (+/-)(Max)(V): 18; Vs (+/-)(Min)(V): 4.5; DatasheetVersion: SBOS242B; PackageVersion: 4040047-3/M, 06/2011; PackageReference: D8; PackageDescription: 8-Pin Plastic Small Outline, Body 4.9 x 3.9 mm, Pitch 1.27 mm; Supplier 1: Digi-Key; Supplier Part Number 1: LOG101AIDRE4-ND; Supplier 2: Mouser; Supplier Part Number 2: 595-LOG101AIDRE4; Eco-Plan: Green (RoHS & no Sb/Br); Iq(Max)(mA): 1.5; Offset Voltage (Input Amplifiers)(Max)(mV): 1.5; SubFamily: Logarithmic Amplifier; Mounting Technology: Surface Mount; Code_JEDEC: MS-012; ComponentLink1Description: Manufacturer URL; ComponentLink1URL: http://www.ti.com/; ComponentLink2Description: Datasheet; ComponentLink2URL: http://www.ti.com/general/docs/lit/getliterature.tsp?genericPartNumber=LOG101&fileType=pdf; ComponentLink3Description: Package Specification; ComponentLink3URL: http://www.ti.com/litv/pdf/msoi002j
footprint TI-D8_N (SOIC, 8-Leads, Body 5x4mm, Pitch 1.27mm, IPC Medium Density)
footprint TI-D8_L (SOIC, 8-Leads, Body 5x4mm, Pitch 1.27mm, IPC High Density)
footprint TI-D8_M (SOIC, 8-Leads, Body 5x4mm, Pitch 1.27mm, IPC Low Density)
pins: 1 I1 (in), 2 NC, 3 VOUT (out), 4 V+ (power), 5 V- (power), 6 GND (power), 7 NC, 8 I2 (in)

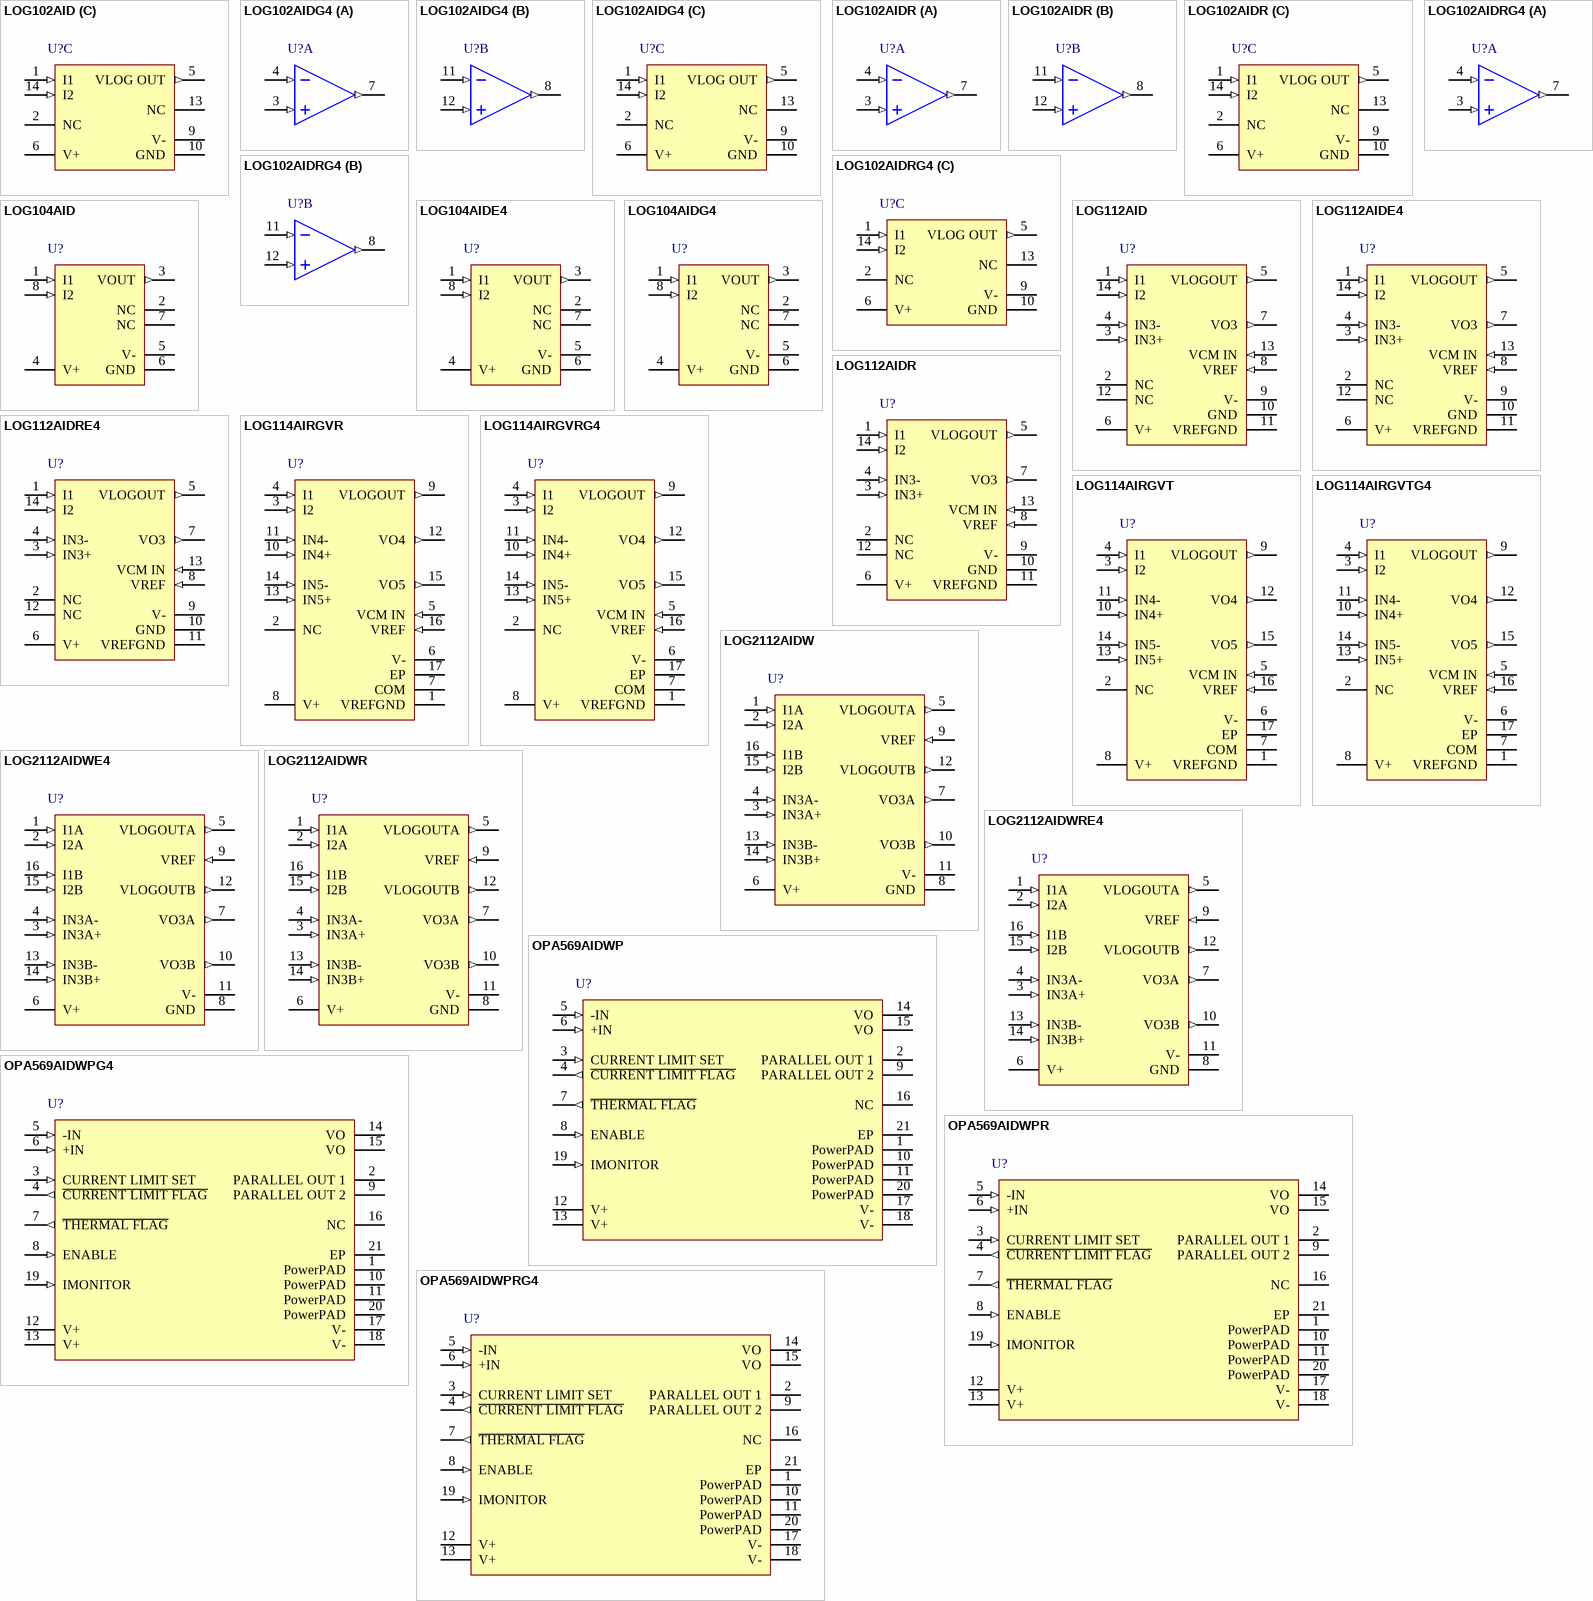
[diagram p4: symbols LOG102AID to OPA569AIDWPRG4]

## LOG102AID
designator U?
Logarithmic and Log Ratio Amplifier, 0 to 70 degC, 14-pin SOIC (D14), Green (RoHS & no Sb/Br); Manufacturer: Texas Instruments; PartNumber: LOG102AID; Conformity Error (initial 5 decades)(Max)(%): 0.3; Full-Scale Output Voltage(Max)(+/- V): 1.5; Full-Scale Output Voltage(Min)(+/- V): 1.2; Input Current Range(Max)(mA): 1; Iq(Max)(mA): 2; Offset Voltage (Input Amplifiers)(Max)(mV): 0.75; Reference Type: External; SubFamily: Logarithmic Amplifier; Vs (+/-)(Max)(V): 18; Vs (+/-)(Min)(V): 4.5; DatasheetVersion: SBOS211B; PackageVersion: 4040047-5/M, 06/2011; PackageReference: D14; PackageDescription: 14-Pin Plastic Small Outline, Body 8.65 x 3.9 mm, Pitch 1.27 mm; Supplier 1: Digi-Key; Supplier Part Number 1: LOG102AID-ND; Supplier 2: Farnell; Supplier Part Number 2: 1212428; Supplier 3: Newark; Supplier Part Number 3: 04M4564; Supplier 4: Mouser; Supplier Part Number 4: 595-LOG102AID; Eco-Plan: Green (RoHS & no Sb/Br); Input Current Range(Min)(nA): 1; Scale Factor(V/decade): 1; Mounting Technology: Surface Mount; Code_JEDEC: MS-012; ComponentLink1Description: Manufacturer URL; ComponentLink1URL: http://www.ti.com/; ComponentLink2Description: Datasheet; ComponentLink2URL: http://www.ti.com/general/docs/lit/getliterature.tsp?genericPartNumber=LOG102&fileType=pdf; ComponentLink3Description: Package Specification; ComponentLink3URL: http://www.ti.com/lit/ml/mpds177g/mpds177g.pdf
footprint TI-D14_N (SOIC, 14-Leads, Body 8.75x4mm, Pitch 1.27mm, IPC Medium Density)
footprint TI-D14_L (SOIC, 14-Leads, Body 8.75x4mm, Pitch 1.27mm, IPC High Density)
footprint TI-D14_M (SOIC, 14-Leads, Body 8.75x4mm, Pitch 1.27mm, IPC Low Density)
part A pins: 3 IN3+ (in), 4 IN3- (in), 7 VOUT3 (out)
part B pins: 8 VOUT4 (out), 11 IN4- (in), 12 IN4+ (in)
part C pins: 1 I1 (in), 2 NC, 5 VLOG OUT (out), 6 V+ (power), 9 V- (power), 10 GND (power), 13 NC, 14 I2 (in)

## LOG102AIDG4
designator U?
Logarithmic and Log Ratio Amplifier, 0 to 70 degC, 14-pin SOIC (D14), Green (RoHS & no Sb/Br); Manufacturer: Texas Instruments; PartNumber: LOG102AIDG4; Conformity Error (initial 5 decades)(Max)(%): 0.3; Full-Scale Output Voltage(Max)(+/- V): 1.5; Full-Scale Output Voltage(Min)(+/- V): 1.2; Input Current Range(Max)(mA): 1; Iq(Max)(mA): 2; Offset Voltage (Input Amplifiers)(Max)(mV): 0.75; Reference Type: External; SubFamily: Logarithmic Amplifier; Vs (+/-)(Max)(V): 18; Vs (+/-)(Min)(V): 4.5; DatasheetVersion: SBOS211B; PackageVersion: 4040047-5/M, 06/2011; PackageReference: D14; PackageDescription: 14-Pin Plastic Small Outline, Body 8.65 x 3.9 mm, Pitch 1.27 mm; Supplier 1: Digi-Key; Supplier Part Number 1: LOG102AIDG4-ND; Supplier 2: Newark; Supplier Part Number 2: 20M5563; Supplier 3: Mouser; Supplier Part Number 3: 595-LOG102AIDG4; Eco-Plan: Green (RoHS & no Sb/Br); Input Current Range(Min)(nA): 1; Scale Factor(V/decade): 1; Mounting Technology: Surface Mount; Code_JEDEC: MS-012; ComponentLink1Description: Manufacturer URL; ComponentLink1URL: http://www.ti.com/; ComponentLink2Description: Datasheet; ComponentLink2URL: http://www.ti.com/general/docs/lit/getliterature.tsp?genericPartNumber=LOG102&fileType=pdf; ComponentLink3Description: Package Specification; ComponentLink3URL: http://www.ti.com/lit/ml/mpds177g/mpds177g.pdf
footprint TI-D14_N (SOIC, 14-Leads, Body 8.75x4mm, Pitch 1.27mm, IPC Medium Density)
footprint TI-D14_L (SOIC, 14-Leads, Body 8.75x4mm, Pitch 1.27mm, IPC High Density)
footprint TI-D14_M (SOIC, 14-Leads, Body 8.75x4mm, Pitch 1.27mm, IPC Low Density)
part A pins: 3 IN3+ (in), 4 IN3- (in), 7 VOUT3 (out)
part B pins: 8 VOUT4 (out), 11 IN4- (in), 12 IN4+ (in)
part C pins: 1 I1 (in), 2 NC, 5 VLOG OUT (out), 6 V+ (power), 9 V- (power), 10 GND (power), 13 NC, 14 I2 (in)

## LOG102AIDR
designator U?
Logarithmic and Log Ratio Amplifier, 0 to 70 degC, 14-pin SOIC (D14), Green (RoHS & no Sb/Br); Manufacturer: Texas Instruments; PartNumber: LOG102AIDR; Conformity Error (initial 5 decades)(Max)(%): 0.3; Full-Scale Output Voltage(Max)(+/- V): 1.5; Full-Scale Output Voltage(Min)(+/- V): 1.2; Input Current Range(Max)(mA): 1; Iq(Max)(mA): 2; Offset Voltage (Input Amplifiers)(Max)(mV): 0.75; Reference Type: External; SubFamily: Logarithmic Amplifier; Vs (+/-)(Max)(V): 18; Vs (+/-)(Min)(V): 4.5; DatasheetVersion: SBOS211B; PackageVersion: 4040047-5/M, 06/2011; PackageReference: D14; PackageDescription: 14-Pin Plastic Small Outline, Body 8.65 x 3.9 mm, Pitch 1.27 mm; Supplier 1: Digi-Key; Supplier Part Number 1: LOG102AIDR-ND; Supplier 2: Mouser; Supplier Part Number 2: 595-LOG102AIDR; Eco-Plan: Green (RoHS & no Sb/Br); Input Current Range(Min)(nA): 1; Scale Factor(V/decade): 1; Mounting Technology: Surface Mount; Code_JEDEC: MS-012; ComponentLink1Description: Manufacturer URL; ComponentLink1URL: http://www.ti.com/; ComponentLink2Description: Datasheet; ComponentLink2URL: http://www.ti.com/general/docs/lit/getliterature.tsp?genericPartNumber=LOG102&fileType=pdf; ComponentLink3Description: Package Specification; ComponentLink3URL: http://www.ti.com/lit/ml/mpds177g/mpds177g.pdf
footprint TI-D14_N (SOIC, 14-Leads, Body 8.75x4mm, Pitch 1.27mm, IPC Medium Density)
footprint TI-D14_L (SOIC, 14-Leads, Body 8.75x4mm, Pitch 1.27mm, IPC High Density)
footprint TI-D14_M (SOIC, 14-Leads, Body 8.75x4mm, Pitch 1.27mm, IPC Low Density)
part A pins: 3 IN3+ (in), 4 IN3- (in), 7 VOUT3 (out)
part B pins: 8 VOUT4 (out), 11 IN4- (in), 12 IN4+ (in)
part C pins: 1 I1 (in), 2 NC, 5 VLOG OUT (out), 6 V+ (power), 9 V- (power), 10 GND (power), 13 NC, 14 I2 (in)

## LOG102AIDRG4
designator U?
Logarithmic and Log Ratio Amplifier, 0 to 70 degC, 14-pin SOIC (D14), Green (RoHS & no Sb/Br); Manufacturer: Texas Instruments; PartNumber: LOG102AIDRG4; Conformity Error (initial 5 decades)(Max)(%): 0.3; Full-Scale Output Voltage(Max)(+/- V): 1.5; Full-Scale Output Voltage(Min)(+/- V): 1.2; Input Current Range(Max)(mA): 1; Iq(Max)(mA): 2; Offset Voltage (Input Amplifiers)(Max)(mV): 0.75; Reference Type: External; SubFamily: Logarithmic Amplifier; Vs (+/-)(Max)(V): 18; Vs (+/-)(Min)(V): 4.5; DatasheetVersion: SBOS211B; PackageVersion: 4040047-5/M, 06/2011; PackageReference: D14; PackageDescription: 14-Pin Plastic Small Outline, Body 8.65 x 3.9 mm, Pitch 1.27 mm; Supplier 1: Digi-Key; Supplier Part Number 1: LOG102AIDRG4-ND; Supplier 2: Mouser; Supplier Part Number 2: 595-LOG102AIDRG4; Eco-Plan: Green (RoHS & no Sb/Br); Input Current Range(Min)(nA): 1; Scale Factor(V/decade): 1; Mounting Technology: Surface Mount; Code_JEDEC: MS-012; ComponentLink1Description: Manufacturer URL; ComponentLink1URL: http://www.ti.com/; ComponentLink2Description: Datasheet; ComponentLink2URL: http://www.ti.com/general/docs/lit/getliterature.tsp?genericPartNumber=LOG102&fileType=pdf; ComponentLink3Description: Package Specification; ComponentLink3URL: http://www.ti.com/lit/ml/mpds177g/mpds177g.pdf
footprint TI-D14_N (SOIC, 14-Leads, Body 8.75x4mm, Pitch 1.27mm, IPC Medium Density)
footprint TI-D14_L (SOIC, 14-Leads, Body 8.75x4mm, Pitch 1.27mm, IPC High Density)
footprint TI-D14_M (SOIC, 14-Leads, Body 8.75x4mm, Pitch 1.27mm, IPC Low Density)
part A pins: 3 IN3+ (in), 4 IN3- (in), 7 VOUT3 (out)
part B pins: 8 VOUT4 (out), 11 IN4- (in), 12 IN4+ (in)
part C pins: 1 I1 (in), 2 NC, 5 VLOG OUT (out), 6 V+ (power), 9 V- (power), 10 GND (power), 13 NC, 14 I2 (in)

## LOG104AID
designator U?
Logarithmic Amplifier, -40 to 85 degC, 8-pin SOIC (D8), Green (RoHS & no Sb/Br); Manufacturer: Texas Instruments; PartNumber: LOG104AID; Conformity Error (initial 5 decades)(Max)(%): 0.2; Full-Scale Output Voltage(Max)(+/- V): 1.5; Full-Scale Output Voltage(Min)(+/- V): 1.2; Input Current Range(Max)(mA): 3.5; Input Current Range(Min)(nA): 0.1; Reference Type: External; Scale Factor(V/decade): 0.5; Vs (+/-)(Max)(V): 18; Vs (+/-)(Min)(V): 4.5; DatasheetVersion: SBOS243C; PackageVersion: 4040047-3/M, 06/2011; PackageReference: D8; PackageDescription: 8-Pin Plastic Small Outline, Body 4.9 x 3.9 mm, Pitch 1.27 mm; Supplier 1: Digi-Key; Supplier Part Number 1: 296-12851-5-ND; Supplier 2: Newark; Supplier Part Number 2: 75C0878; Supplier 3: Mouser; Supplier Part Number 3: 595-LOG104AID; Eco-Plan: Green (RoHS & no Sb/Br); Iq(Max)(mA): 1.5; Offset Voltage (Input Amplifiers)(Max)(mV): 1.5; SubFamily: Logarithmic Amplifier; Mounting Technology: Surface Mount; Code_JEDEC: MS-012; ComponentLink1Description: Manufacturer URL; ComponentLink1URL: http://www.ti.com/; ComponentLink2Description: Datasheet; ComponentLink2URL: http://www.ti.com/general/docs/lit/getliterature.tsp?genericPartNumber=LOG104&fileType=pdf; ComponentLink3Description: Package Specification; ComponentLink3URL: http://www.ti.com/litv/pdf/msoi002j
footprint TI-D8_N (SOIC, 8-Leads, Body 5x4mm, Pitch 1.27mm, IPC Medium Density)
footprint TI-D8_L (SOIC, 8-Leads, Body 5x4mm, Pitch 1.27mm, IPC High Density)
footprint TI-D8_M (SOIC, 8-Leads, Body 5x4mm, Pitch 1.27mm, IPC Low Density)
pins: 1 I1 (in), 2 NC, 3 VOUT (out), 4 V+ (power), 5 V- (power), 6 GND (power), 7 NC, 8 I2 (in)

## LOG104AIDE4
designator U?
Logarithmic Amplifier, -40 to 85 degC, 8-pin SOIC (D8), Green (RoHS & no Sb/Br); Manufacturer: Texas Instruments; PartNumber: LOG104AIDE4; Conformity Error (initial 5 decades)(Max)(%): 0.2; Full-Scale Output Voltage(Max)(+/- V): 1.5; Full-Scale Output Voltage(Min)(+/- V): 1.2; Input Current Range(Max)(mA): 3.5; Input Current Range(Min)(nA): 0.1; Reference Type: External; Scale Factor(V/decade): 0.5; Vs (+/-)(Max)(V): 18; Vs (+/-)(Min)(V): 4.5; DatasheetVersion: SBOS243C; PackageVersion: 4040047-3/M, 06/2011; PackageReference: D8; PackageDescription: 8-Pin Plastic Small Outline, Body 4.9 x 3.9 mm, Pitch 1.27 mm; Supplier 1: Digi-Key; Supplier Part Number 1: LOG104AIDE4-ND; Supplier 2: Mouser; Supplier Part Number 2: 595-LOG104AIDE4; Eco-Plan: Green (RoHS & no Sb/Br); Iq(Max)(mA): 1.5; Offset Voltage (Input Amplifiers)(Max)(mV): 1.5; SubFamily: Logarithmic Amplifier; Mounting Technology: Surface Mount; Code_JEDEC: MS-012; ComponentLink1Description: Manufacturer URL; ComponentLink1URL: http://www.ti.com/; ComponentLink2Description: Datasheet; ComponentLink2URL: http://www.ti.com/general/docs/lit/getliterature.tsp?genericPartNumber=LOG104&fileType=pdf; ComponentLink3Description: Package Specification; ComponentLink3URL: http://www.ti.com/litv/pdf/msoi002j
footprint TI-D8_N (SOIC, 8-Leads, Body 5x4mm, Pitch 1.27mm, IPC Medium Density)
footprint TI-D8_L (SOIC, 8-Leads, Body 5x4mm, Pitch 1.27mm, IPC High Density)
footprint TI-D8_M (SOIC, 8-Leads, Body 5x4mm, Pitch 1.27mm, IPC Low Density)
pins: 1 I1 (in), 2 NC, 3 VOUT (out), 4 V+ (power), 5 V- (power), 6 GND (power), 7 NC, 8 I2 (in)

## LOG104AIDG4
designator U?
Logarithmic Amplifier, -40 to 85 degC, 8-pin SOIC (D8), Green (RoHS & no Sb/Br); Manufacturer: Texas Instruments; PartNumber: LOG104AIDG4; Conformity Error (initial 5 decades)(Max)(%): 0.2; Full-Scale Output Voltage(Max)(+/- V): 1.5; Full-Scale Output Voltage(Min)(+/- V): 1.2; Input Current Range(Max)(mA): 3.5; Input Current Range(Min)(nA): 0.1; Reference Type: External; Scale Factor(V/decade): 0.5; Vs (+/-)(Max)(V): 18; Vs (+/-)(Min)(V): 4.5; DatasheetVersion: SBOS243C; PackageVersion: 4040047-3/M, 06/2011; PackageReference: D8; PackageDescription: 8-Pin Plastic Small Outline, Body 4.9 x 3.9 mm, Pitch 1.27 mm; Supplier 1: Digi-Key; Supplier Part Number 1: LOG104AIDG4-ND; Supplier 2: Mouser; Supplier Part Number 2: 595-LOG104AIDG4; Eco-Plan: Green (RoHS & no Sb/Br); Iq(Max)(mA): 1.5; Offset Voltage (Input Amplifiers)(Max)(mV): 1.5; SubFamily: Logarithmic Amplifier; Mounting Technology: Surface Mount; Code_JEDEC: MS-012; ComponentLink1Description: Manufacturer URL; ComponentLink1URL: http://www.ti.com/; ComponentLink2Description: Datasheet; ComponentLink2URL: http://www.ti.com/general/docs/lit/getliterature.tsp?genericPartNumber=LOG104&fileType=pdf; ComponentLink3Description: Package Specification; ComponentLink3URL: http://www.ti.com/litv/pdf/msoi002j
footprint TI-D8_N (SOIC, 8-Leads, Body 5x4mm, Pitch 1.27mm, IPC Medium Density)
footprint TI-D8_L (SOIC, 8-Leads, Body 5x4mm, Pitch 1.27mm, IPC High Density)
footprint TI-D8_M (SOIC, 8-Leads, Body 5x4mm, Pitch 1.27mm, IPC Low Density)
pins: 1 I1 (in), 2 NC, 3 VOUT (out), 4 V+ (power), 5 V- (power), 6 GND (power), 7 NC, 8 I2 (in)

## LOG112AID
designator U?
Precision Logarithmic and Log Ratio Amplifier with On-Chip 2.5 V Voltage Reference, -5 to 75 degC, 14-pin SOIC (D14), Green (RoHS & no Sb/Br); Manufacturer: Texas Instruments; PartNumber: LOG112AID; Conformity Error (initial 5 decades)(Max)(%): 0.2; Full-Scale Output Voltage(Max)(+/- V): 1.5; Full-Scale Output Voltage(Min)(+/- V): 1.2; Input Current Range(Max)(mA): 3.5; Input Current Range(Min)(nA): 0.1; Iq(Max)(mA): 1.75; Reference Type: Internal; Scale Factor(V/decade): 0.5; SubFamily: Logarithmic Amplifier; Vs (+/-)(Max)(V): 18; Vs (+/-)(Min)(V): 4.5; DatasheetVersion: SBOS246D; PackageVersion: 4040047-5/M, 06/2011; PackageReference: D14; PackageDescription: 14-Pin Plastic Small Outline, Body 8.65 x 3.9 mm, Pitch 1.27 mm; Supplier 1: Digi-Key; Supplier Part Number 1: 296-13456-5-ND; Supplier 2: Farnell; Supplier Part Number 2: 1214431; Supplier 3: Newark; Supplier Part Number 3: 01M8175; Supplier 4: Newark; Supplier Part Number 4: 14M8175; Supplier 5: Mouser; Supplier Part Number 5: 595-LOG112AID; Eco-Plan: Green (RoHS & no Sb/Br); Offset Voltage (Input Amplifiers)(Max)(mV): 1.5; Mounting Technology: Surface Mount; Code_JEDEC: MS-012; ComponentLink1Description: Manufacturer URL; ComponentLink1URL: http://www.ti.com/; ComponentLink2Description: Datasheet; ComponentLink2URL: http://www.ti.com/general/docs/lit/getliterature.tsp?genericPartNumber=LOG112&fileType=pdf; ComponentLink3Description: Package Specification; ComponentLink3URL: http://www.ti.com/lit/ml/mpds177g/mpds177g.pdf
footprint TI-D14_N (SOIC, 14-Leads, Body 8.75x4mm, Pitch 1.27mm, IPC Medium Density)
footprint TI-D14_L (SOIC, 14-Leads, Body 8.75x4mm, Pitch 1.27mm, IPC High Density)
footprint TI-D14_M (SOIC, 14-Leads, Body 8.75x4mm, Pitch 1.27mm, IPC Low Density)
pins: 1 I1 (in), 2 NC, 3 IN3+ (in), 4 IN3- (in), 5 VLOGOUT (out), 6 V+ (power), 7 VO3 (out), 8 VREF (in), 9 V- (power), 10 GND (power), 11 VREFGND (power), 12 NC, 13 VCM IN (in), 14 I2 (in)

## LOG112AIDE4
designator U?
Precision Logarithmic and Log Ratio Amplifier with On-Chip 2.5 V Voltage Reference, -5 to 75 degC, 14-pin SOIC (D14), Green (RoHS & no Sb/Br); Manufacturer: Texas Instruments; PartNumber: LOG112AIDE4; Conformity Error (initial 5 decades)(Max)(%): 0.2; Full-Scale Output Voltage(Max)(+/- V): 1.5; Full-Scale Output Voltage(Min)(+/- V): 1.2; Input Current Range(Max)(mA): 3.5; Input Current Range(Min)(nA): 0.1; Iq(Max)(mA): 1.75; Reference Type: Internal; Scale Factor(V/decade): 0.5; SubFamily: Logarithmic Amplifier; Vs (+/-)(Max)(V): 18; Vs (+/-)(Min)(V): 4.5; DatasheetVersion: SBOS246D; PackageVersion: 4040047-5/M, 06/2011; PackageReference: D14; PackageDescription: 14-Pin Plastic Small Outline, Body 8.65 x 3.9 mm, Pitch 1.27 mm; Supplier 1: Digi-Key; Supplier Part Number 1: LOG112AIDE4-ND; Supplier 2: Mouser; Supplier Part Number 2: 595-LOG112AIDE4; Eco-Plan: Green (RoHS & no Sb/Br); Offset Voltage (Input Amplifiers)(Max)(mV): 1.5; Mounting Technology: Surface Mount; Code_JEDEC: MS-012; ComponentLink1Description: Manufacturer URL; ComponentLink1URL: http://www.ti.com/; ComponentLink2Description: Datasheet; ComponentLink2URL: http://www.ti.com/general/docs/lit/getliterature.tsp?genericPartNumber=LOG112&fileType=pdf; ComponentLink3Description: Package Specification; ComponentLink3URL: http://www.ti.com/lit/ml/mpds177g/mpds177g.pdf
footprint TI-D14_N (SOIC, 14-Leads, Body 8.75x4mm, Pitch 1.27mm, IPC Medium Density)
footprint TI-D14_L (SOIC, 14-Leads, Body 8.75x4mm, Pitch 1.27mm, IPC High Density)
footprint TI-D14_M (SOIC, 14-Leads, Body 8.75x4mm, Pitch 1.27mm, IPC Low Density)
pins: 1 I1 (in), 2 NC, 3 IN3+ (in), 4 IN3- (in), 5 VLOGOUT (out), 6 V+ (power), 7 VO3 (out), 8 VREF (in), 9 V- (power), 10 GND (power), 11 VREFGND (power), 12 NC, 13 VCM IN (in), 14 I2 (in)